# EAGLE library part LTC3630 (library linear-technology)
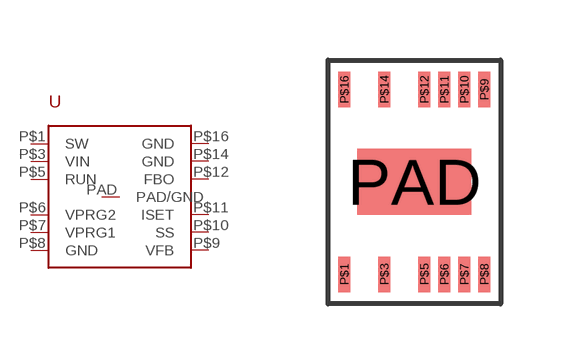
[diagram p28: symbol with the pads of MSE16(12); footprint MSE16(12)]

Designator prefix -

## LTC3630  [MSE16(12)]
P$1  SW
P$3  VIN
P$5  RUN
P$6  VPRG2
P$7  VPRG1
P$8  GND
P$9  VFB
P$10  SS
P$11  ISET
P$12  FBO
P$14  GND
P$16  GND
PAD  PAD/GND

## Footprint MSE16(12) (pad centres in mm)
smd 0.305 x 0.889: P$1 -1.75,-2.31; P$3 -0.75,-2.31; P$5 0.25,-2.31; P$6 0.75,-2.31; P$7 1.25,-2.31; P$8 1.75,-2.31; P$9 1.75,2.31; P$10 1.25,2.31; P$11 0.75,2.31; P$12 0.25,2.31; P$14 -0.75,2.31; P$16 -1.75,2.31
smd 2.845 x 1.651: PAD 0,0